# EAGLE library part 691327310016 (library Wurth_Elektronik_Electromechanic_Terminal_Blocks_Connectors_rev16b)
WR-TBL Serie 3273 – 3.81mm Close Horizontal Dual Row PCB Header, 16 Pins=>Code : Con_TBL_Pluggable_3.81_PCB_THT_Double_691327310016 <http://katalog.we-online.de/media/images/eican/Con_TBL_Pluggable_3.81_PCB_THT_Double_6913273100xx_pf2.jpg> Details see: http://katalog.we-online.de/en/em/691_327_310_0xx Created 2014-06-19, Karrer Zheng 2014 (C) Würth Elektronik
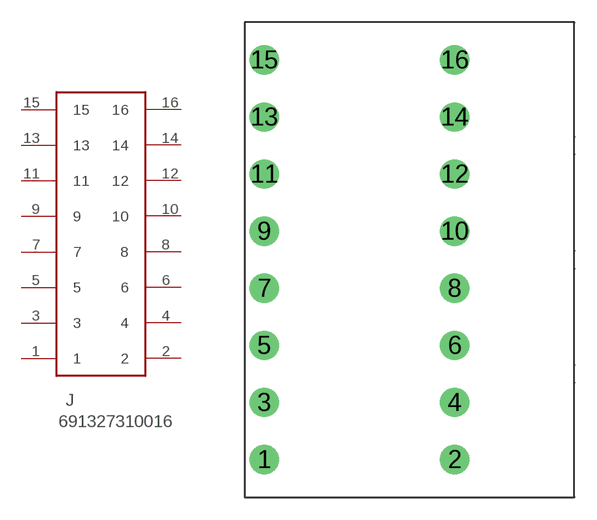
[diagram p382: symbol with the pads of 691327310016; footprint 691327310016]

Designator prefix J

## 691327310016  [691327310016]
1  1  pas
2  2  pas
3  3  pas
4  4  pas
5  5  pas
6  6  pas
7  7  pas
8  8  pas
9  9  pas
10  10  pas
11  11  pas
12  12  pas
13  13  pas
14  14  pas
15  15  pas
16  16  pas

## Footprint 691327310016 (pad centres in mm)
WR-TBL Serie 3273 – 3.81mm Close Horizontal Dual Row PCB Header, 16 Pins
drill 1.3: 1 0,0; 2 12.7,0; 3 0,3.81; 4 12.7,3.81; 5 0,7.62; 6 12.7,7.62; 7 0,11.43; 8 12.7,11.43; 9 0,15.24; 10 12.7,15.24; 11 0,19.05; 12 12.7,19.05; 13 0,22.86; 14 12.7,22.86; 15 0,26.67; 16 12.7,26.67